# Altium footprint library ESP32-S3-WROOM-1.PcbLib: 40 footprints (part 2 of 3)
Each footprint in its own frame and in the unit in brackets; x right, y up, seen from the top. Pads: shape width x height; smd on the part's side, far side on the other; paste and mask are expansions set on the pad; w line width, h text height; cw(c..) or ccw(c..) is an arc to the next point about the centre after c.
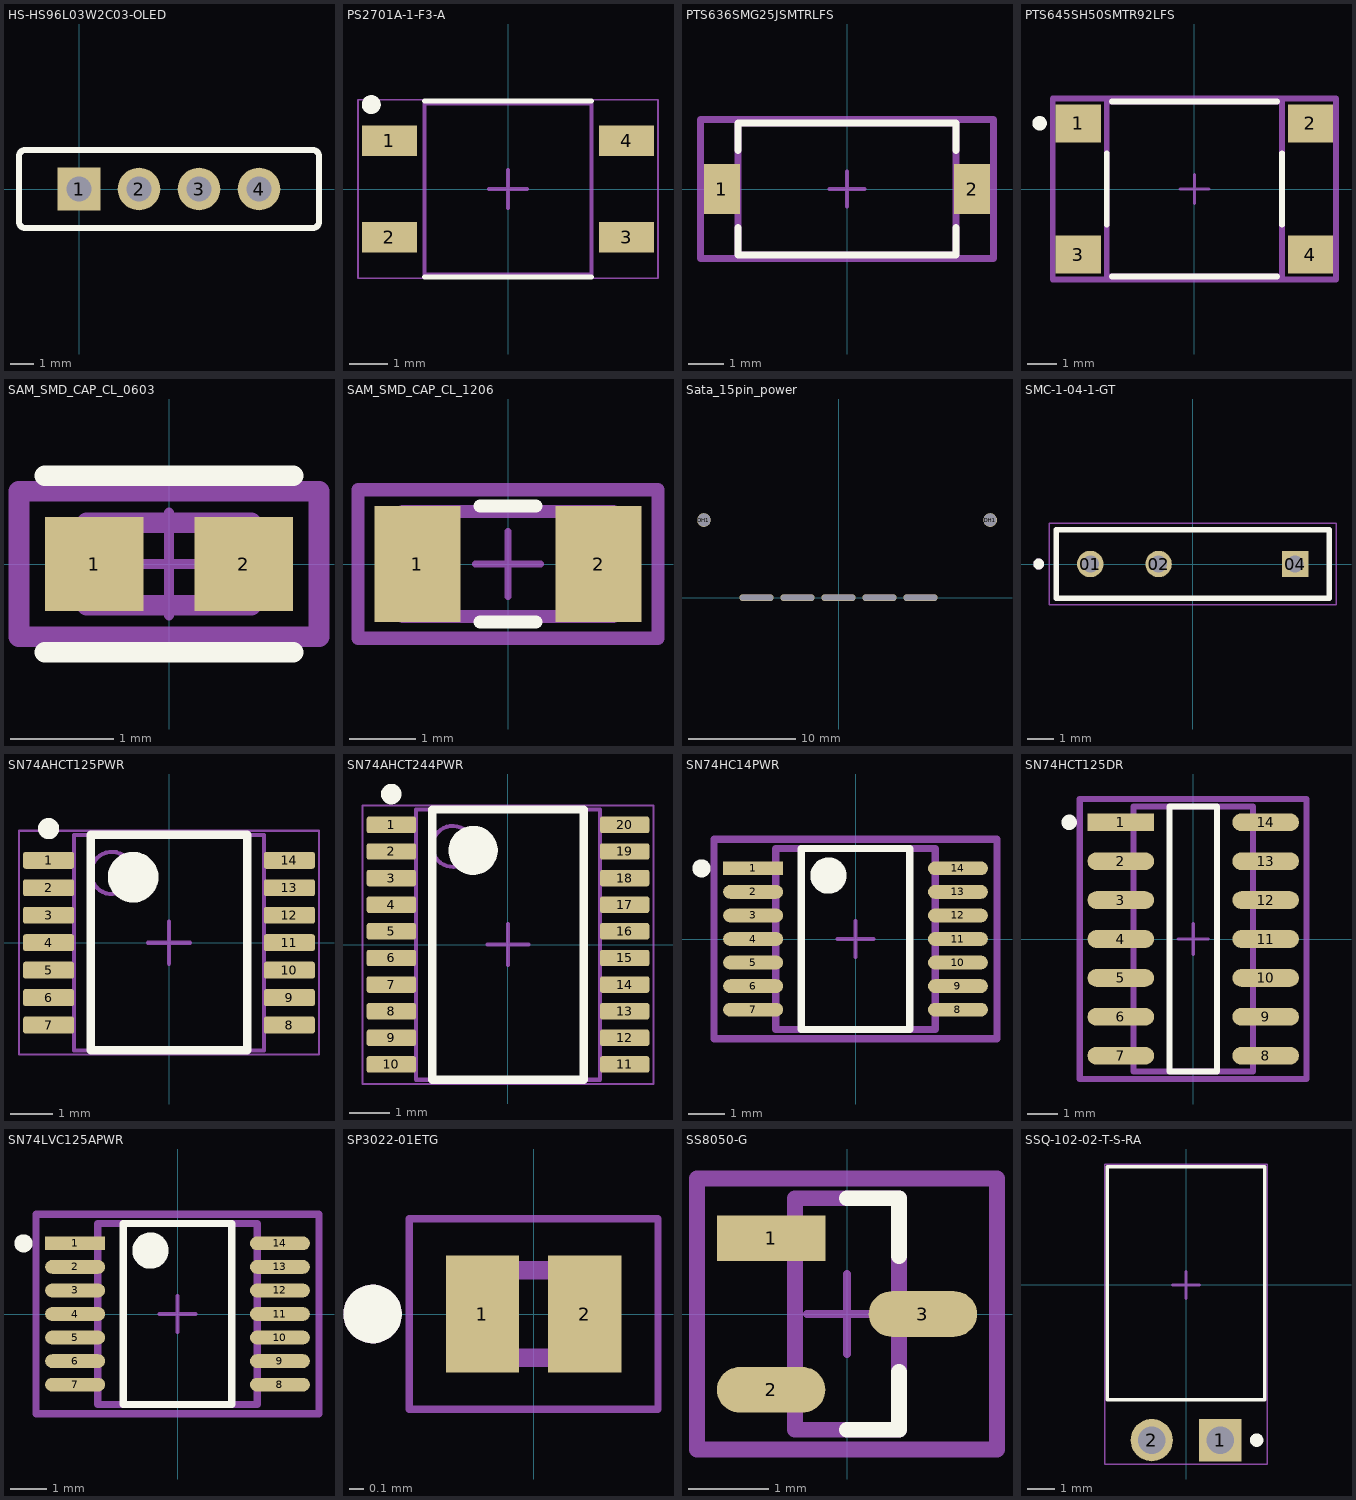
[diagram p1: the footprints below, top view; thin cyan lines are the x and y axes]

## HS-HS96L03W2C03-OLED [mm]
pads (4):
  rect 1.8x1.8 hole 1.05 paste-2539.97 mask+0.05: 1(0,0)
  round 1.8 hole 1.05 paste-2539.97 mask+0.05: 2(2.54,0) 3(5.08,0) 4(7.62,0)
Top Overlay:
  lines w0.254: -2.54,-1.397 ccw(c-2.286,-1.397) -2.286,-1.651 9.906,-1.651 ccw(c9.906,-1.397) 10.16,-1.397 10.16,1.397 ccw(c9.906,1.397) 9.906,1.651 -2.286,1.651 ccw(c-2.286,1.397) -2.54,1.397 -2.54,-1.397
Top Courtyard:
  region: -0.32,0.32 0.32,0.32 0.32,-0.32 -0.32,-0.32
  region: 2.22,0.32 2.86,0.32 2.86,-0.32 2.22,-0.32
  region: 4.76,0.32 5.4,0.32 5.4,-0.32 4.76,-0.32
  region: 7.3,0.32 7.94,0.32 7.94,-0.32 7.3,-0.32
3D body "User Library-128x64I2COLEDDisplayAdafruit.step": height 5.03, standoff -5.82, extent -9.54,-25.574 17.16,2.286

## PS2701A-1-F3-A [mm] "Recommended Land Pattern"
height 2.3
pads (4):
  rect 1.45x0.8 smd paste+0 mask+0: 1(-3.125,1.27) 2(-3.125,-1.27) 3(3.125,-1.27) 4(3.125,1.27)
Top Overlay:
  circle w0.25: c-3.6,2.224 r0.125
  lines w0.127: -2.2,-2.314 2.2,-2.314 ; -2.2,2.314 2.2,2.314
Top Assembly:
  lines w0.1: -2.2,-2.25 2.2,-2.25 2.2,2.25 -2.2,2.25 -2.2,-2.25
Top Designator:
  text ".Designator" at 0,-0.001 h1
Top Courtyard:
  lines w0.05: -3.95,-2.35 3.95,-2.35 3.95,2.35 -3.95,2.35 -3.95,-2.35
Top Component Center:
  lines w0.1: -0.5,0 0.5,0 ; 0,-0.5 0,0.5
3D body "SOP254P700X230-4_SOP-OPTO3.STEP": height 2.3, standoff 0, extent -3.5,-2 3.5,2

## PTS636SMG25JSMTRLFS [mm]
pads (2):
  rect 1x1.4 smd paste+0 mask+0: 1(-3.5,0) 2(3.5,0)
Top Overlay:
  lines w0.2: -3.05,-1.075 -3.05,-1.85 3.05,-1.85 3.05,-1.075 ; -3.05,1.075 -3.05,1.85 3.05,1.85 3.05,1.075
Top Assembly:
  lines w0.2: -4.1,-1.95 4.1,-1.95 4.1,1.95 -4.1,1.95 -4.1,-1.95
  text ".Designator" at 0,0.188 h1
Top 3D Body:
  lines w0.2: -3.05,-1.85 3.05,-1.85 3.05,1.85 -3.05,1.85 -3.05,-1.85
Top Courtyard:
  lines w0.2: -4.1,-1.95 4.1,-1.95 4.1,1.95 -4.1,1.95 -4.1,-1.95
Top Component Center:
  lines w0.1: -0.5,0 0.5,0 ; 0,-0.5 0,0.5
3D body "Switch_C&K_Components_PTS635SK25SM_eec.STEP": height 0.25, standoff 0, extent -4.1,-1.95 4.1,1.95

## PTS645SH50SMTR92LFS [mm]
pads (4):
  rect 1.55x1.3 smd paste+0 mask+0: 1(-3.975,2.25) 2(3.975,2.25) 3(-3.975,-2.25) 4(3.975,-2.25)
Top Overlay:
  circle w0.25: c-5.3,2.25 r0.125
  lines w0.2: -3,-1.225 -3,1.225 ; -2.825,-3 2.825,-3 ; -2.825,3 2.825,3 ; 3,-1.225 3,1.225
Top Assembly:
  lines w0.2: -4.85,-3.1 -4.85,3.1 4.85,3.1 4.85,-3.1 -4.85,-3.1
  text ".Designator" at 0,0.188 h1
Top 3D Body:
  lines w0.2: -3,-3 -3,3 3,3 3,-3 -3,-3
Top Courtyard:
  lines w0.2: -4.85,-3.1 -4.85,3.1 4.85,3.1 4.85,-3.1 -4.85,-3.1
Top Component Center:
  lines w0.1: -0.5,0 0.5,0 ; 0,-0.5 0,0.5
3D body "Switch_C&K_PTS645SH50SMTR92LFS_eec.STEP": height 0.25, standoff 0, extent -4.85,-3.1 4.85,3.1

## SAM_SMD_CAP_CL_0603 [mm]
pads (2):
  rect 0.958x0.912 smd paste+0 mask+0: 1(-0.727,0) 2(0.727,0)
Top Overlay:
  lines w0.2: -1.206,-0.856 1.206,-0.856 ; -1.206,0.856 1.206,0.856
Top Assembly:
  lines w0.2: -1.456,-0.706 -1.456,0.706 1.456,0.706 1.456,-0.706 -1.456,-0.706
  text ".Designator" at 0,0.188 h1
Top 3D Body:
  lines w0.2: -0.8,-0.4 -0.8,0.4 0.8,0.4 0.8,-0.4 -0.8,-0.4
Top Courtyard:
  lines w0.2: -1.456,-0.706 -1.456,0.706 1.456,0.706 1.456,-0.706 -1.456,-0.706
Top Component Center:
  lines w0.1: -0.5,0 0.5,0 ; 0,-0.5 0,0.5
3D body "Cap_Samsung_CL10B473KO8NNWC_eec.STEP": height 0.25, standoff 0, extent -1.456,-0.706 1.456,0.706

## SAM_SMD_CAP_CL_1206 [mm]
pads (2):
  rect 1.305x1.758 smd paste+0 mask+0: 1(-1.376,0) 2(1.376,0)
Top Overlay:
  lines w0.2: -0.424,-0.879 0.424,-0.879 ; -0.424,0.879 0.424,0.879
Top Assembly:
  lines w0.2: -2.279,-1.129 -2.279,1.129 2.279,1.129 2.279,-1.129 -2.279,-1.129
  text ".Designator" at 0,0.188 h1
Top 3D Body:
  lines w0.2: -1.6,-0.8 -1.6,0.8 1.6,0.8 1.6,-0.8 -1.6,-0.8
Top Courtyard:
  lines w0.2: -2.279,-1.129 -2.279,1.129 2.279,1.129 2.279,-1.129 -2.279,-1.129
Top Component Center:
  lines w0.1: -0.5,0 0.5,0 ; 0,-0.5 0,0.5
3D body "Cap_Samsung_CL31B105KOFNNNE_eec.STEP": height 0.25, standoff 0, extent -2.279,-1.129 2.279,1.129

## Sata_15pin_power [mil]
pads (7):
  oval 125x25 hole 20 slot 120 at 0 deg: 3V3(300,0) 5V(0,0) 12v(-300,0) GND-1(-150,0) GND-2(150,0)
  round 50 hole 47.24 unplated: DH1(-493,284) DH1(555,284)
3D body "15PinSataMaleTHT_v2.step": height 173.23, standoff -98.43, extent -565.55,-152.13 615.55,340

## SMC-1-04-1-GT [mm]
pads (3):
  round 0.985 hole 0.635: 01(-3.81,0) 02(-1.27,0)
  rect 0.985x0.985 hole 0.635: 04(3.81,0)
Top Overlay:
  circle w0.2: c-5.73,0 r0.1
  lines w0.2: -5.08,-1.27 -5.08,1.27 5.08,1.27 5.08,-1.27 -5.08,-1.27
Top 3D Body:
  circle w0.2: c-5.73,0 r0.1
  lines w0.1: -5.08,-1.27 -5.08,1.27 ; -5.08,-1.27 5.08,-1.27 ; -5.08,-1.27 -5.08,1.27 ; -5.08,1.27 5.08,1.27 ; -5.08,1.27 5.08,1.27 ; 5.08,-1.27 5.08,1.27 ; 5.08,-1.27 5.08,1.27
Top Courtyard:
  lines w0.05: -5.33,-1.52 -5.33,1.52 5.33,1.52 5.33,-1.52 -5.33,-1.52
3D body "User Library-ADAM_TECH_SMC-1-04-1-GT.STEP": height 4.28, standoff -3.15, extent -5.08,-1.27 5.08,1.27

## SN74AHCT125PWR [mm] "SOP, 14-Leads, Body 5.1x4.5mm, Pitch 0.65mm, IPC High Density"
height 1.2
pads (14):
  rrect25% 1.2x0.4 smd: 1(-2.85,1.95) 2(-2.85,1.3) 3(-2.85,0.65) 4(-2.85,0) 5(-2.85,-0.65) 6(-2.85,-1.3) 7(-2.85,-1.95) 8(2.85,-1.95) 9(2.85,-1.3) 10(2.85,-0.65) 11(2.85,0) 12(2.85,0.65) 13(2.85,1.3) 14(2.85,1.95)
Top Overlay:
  circle w0.6: c-0.85,1.55 r0.3
  circle w0.25: c-2.85,2.7 r0.125
  lines w0.2: -1.85,-2.55 1.85,-2.55 1.85,2.55 -1.85,2.55 -1.85,-2.55
Mechanical 1:
  text ".Designator" at -1.524,-0.508 h1.02
Top 3D Body:
  circle w0.1: c-1.35,1.65 r0.5
  lines w0.1: -2.25,-2.55 2.25,-2.55 2.25,2.55 -2.25,2.55 -2.25,-2.55
Top Courtyard:
  lines w0.05: -3.55,-2.65 3.55,-2.65 3.55,2.65 -3.55,2.65 -3.55,-2.65
  lines w0.1: -0.5,0 0.5,0 ; 0,-0.5 0,0.5
3D body "PW0014AakaMTC14.stp": height 1, standoff 0, extent -3.21,-2.5 3.21,2.5

## SN74AHCT244PWR [mm] "SOP, 20-Leads, Body 6.6x4.5mm, Pitch 0.65mm, IPC High Density"
height 1.2
pads (20):
  rrect25% 1.2x0.4 smd: 1(-2.85,2.925) 2(-2.85,2.275) 3(-2.85,1.625) 4(-2.85,0.975) 5(-2.85,0.325) 6(-2.85,-0.325) 7(-2.85,-0.975) 8(-2.85,-1.625) 9(-2.85,-2.275) 10(-2.85,-2.925) 11(2.85,-2.925) 12(2.85,-2.275) 13(2.85,-1.625) 14(2.85,-0.975) 15(2.85,-0.325) 16(2.85,0.325) 17(2.85,0.975) 18(2.85,1.625) 19(2.85,2.275) 20(2.85,2.925)
Top Overlay:
  circle w0.25: c-2.85,3.675 r0.125
  circle w0.6: c-0.85,2.3 r0.3
  lines w0.2: -1.85,-3.3 -1.85,3.3 1.85,3.3 1.85,-3.3 -1.85,-3.3
Mechanical 1:
  text ".Designator" at -1.524,-0.508 h1.02
Top 3D Body:
  circle w0.1: c-1.35,2.4 r0.5
  lines w0.1: -2.25,-3.3 -2.25,3.3 2.25,3.3 2.25,-3.3 -2.25,-3.3
Top Courtyard:
  lines w0.05: -3.55,-3.4 -3.55,3.4 3.55,3.4 3.55,-3.4 -3.55,-3.4
  lines w0.1: -0.5,0 0.5,0 ; 0,-0.5 0,0.5
3D body "PW0020AakaMTC20.stp": height 1, standoff 0, extent -3.21,-3.25 3.21,3.25

## SN74HC14PWR [mm]
pads (14):
  rect 1.655x0.381 smd paste+0 mask+0: 1(-2.825,1.95)
  rrect100% 1.655x0.381 smd paste+0 mask+0: 2(-2.825,1.3) 3(-2.825,0.65) 4(-2.825,0) 5(-2.825,-0.65) 6(-2.825,-1.3) 7(-2.825,-1.95) 8(2.825,-1.95) 9(2.825,-1.3) 10(2.825,-0.65) 11(2.825,0) 12(2.825,0.65) 13(2.825,1.3) 14(2.825,1.95)
Top Overlay:
  circle w0.5: c-0.748,1.75 r0.25
  circle w0.25: c-4.25,1.95 r0.125
  lines w0.2: -1.498,-2.5 1.498,-2.5 1.498,2.5 -1.498,2.5 -1.498,-2.5
Top Assembly:
  lines w0.2: -3.903,-2.75 3.903,-2.75 3.903,2.75 -3.903,2.75 -3.903,-2.75
  text ".Designator" at 0,0.188 h1
Top 3D Body:
  lines w0.2: -2.2,-2.5 2.2,-2.5 2.2,2.5 -2.2,2.5 -2.2,-2.5
Top Courtyard:
  lines w0.2: -3.903,-2.75 3.903,-2.75 3.903,2.75 -3.903,2.75 -3.903,-2.75
Top Component Center:
  lines w0.1: -0.5,0 0.5,0 ; 0,-0.5 0,0.5
3D body "IC_Texas_Instruments_BQ34110PWR_eec.STEP": height 0.25, standoff 0, extent -3.903,-2.75 3.903,2.75

## SN74HCT125DR [mm]
pads (14):
  rect 2.174x0.582 smd paste+0 mask+0: 1(-2.366,3.81)
  rrect100% 2.174x0.582 smd paste+0 mask+0: 2(-2.366,2.54) 3(-2.366,1.27) 4(-2.366,0) 5(-2.366,-1.27) 6(-2.366,-2.54) 7(-2.366,-3.81) 8(2.366,-3.81) 9(2.366,-2.54) 10(2.366,-1.27) 11(2.366,0) 12(2.366,1.27) 13(2.366,2.54) 14(2.366,3.81)
Top Overlay:
  circle w0.25: c-4.05,3.81 r0.125
  lines w0.2: -0.779,-4.325 0.779,-4.325 0.779,4.325 -0.779,4.325 -0.779,-4.325
Top Assembly:
  lines w0.2: -3.703,-4.575 3.703,-4.575 3.703,4.575 -3.703,4.575 -3.703,-4.575
  text ".Designator" at 0,0.188 h1
Top 3D Body:
  lines w0.2: -1.95,-4.325 1.95,-4.325 1.95,4.325 -1.95,4.325 -1.95,-4.325
Top Courtyard:
  lines w0.2: -3.703,-4.575 3.703,-4.575 3.703,4.575 -3.703,4.575 -3.703,-4.575
Top Component Center:
  lines w0.1: -0.5,0 0.5,0 ; 0,-0.5 0,0.5
3D body "IC_Texas_Instruments_OPA4191IDR_eec.STEP": height 0.25, standoff 0, extent -3.703,-4.575 3.703,4.575

## SN74LVC125APWR [mm]
pads (14):
  rect 1.655x0.381 smd paste+0 mask+0: 1(-2.825,1.95)
  rrect100% 1.655x0.381 smd paste+0 mask+0: 2(-2.825,1.3) 3(-2.825,0.65) 4(-2.825,0) 5(-2.825,-0.65) 6(-2.825,-1.3) 7(-2.825,-1.95) 8(2.825,-1.95) 9(2.825,-1.3) 10(2.825,-0.65) 11(2.825,0) 12(2.825,0.65) 13(2.825,1.3) 14(2.825,1.95)
Top Overlay:
  circle w0.5: c-0.748,1.75 r0.25
  circle w0.25: c-4.25,1.95 r0.125
  lines w0.2: -1.498,-2.5 1.498,-2.5 1.498,2.5 -1.498,2.5 -1.498,-2.5
Top Assembly:
  lines w0.2: -3.903,-2.75 3.903,-2.75 3.903,2.75 -3.903,2.75 -3.903,-2.75
  text ".Designator" at 0,0.188 h1
Top 3D Body:
  lines w0.2: -2.2,-2.5 2.2,-2.5 2.2,2.5 -2.2,2.5 -2.2,-2.5
Top Courtyard:
  lines w0.2: -3.903,-2.75 3.903,-2.75 3.903,2.75 -3.903,2.75 -3.903,-2.75
Top Component Center:
  lines w0.1: -0.5,0 0.5,0 ; 0,-0.5 0,0.5
3D body "IC_Texas_Instruments_BQ34110PWR_eec.STEP": height 0.25, standoff 0, extent -3.903,-2.75 3.903,2.75

## SP3022-01ETG [mm]
pads (2):
  rect 0.5x0.8 smd paste-0.1 mask+0: 1(-0.35,0) 2(0.35,0)
Top Overlay:
  circle w0.2: c-1.1,0 r0.1
Top Solder:
  drawing of 2 lines, arcs and shapes, not listed
Top 3D Body:
  circle w0.2: c-1.1,0 r0.1
  lines w0.127: -0.5,-0.3 -0.5,0.3 0.5,0.3 0.5,-0.3 -0.5,-0.3
Top Courtyard:
  lines w0.05: -0.85,-0.65 -0.85,0.65 0.85,0.65 0.85,-0.65 -0.85,-0.65
3D body "step_temp.STEP": height 0.5, standoff 0, extent -0.5,-0.3 0.5,0.3

## SS8050-G [mm]
pads (3):
  rect 1.357x0.572 smd paste+0 mask+0: 1(-0.951,0.95)
  rrect100% 1.357x0.572 smd paste+0 mask+0: 2(-0.951,-0.95) 3(0.951,0)
Top Overlay:
  lines w0.2: 0,-1.45 0.65,-1.45 0.65,-0.725 ; 0,1.45 0.65,1.45 0.65,0.725
Top Assembly:
  lines w0.2: -1.879,-1.7 1.879,-1.7 1.879,1.7 -1.879,1.7 -1.879,-1.7
  text ".Designator" at 0,-0.001 h1
Top 3D Body:
  lines w0.2: -0.65,-1.45 0.65,-1.45 0.65,1.45 -0.65,1.45 -0.65,-1.45
Top Courtyard:
  lines w0.2: -1.879,-1.7 1.879,-1.7 1.879,1.7 -1.879,1.7 -1.879,-1.7
Top Component Center:
  lines w0.1: -0.5,0 0.5,0 ; 0,-0.5 0,0.5
3D body "Trans_Comchip_SS8050-G_eec.STEP": height 0.25, standoff 0, extent -1.879,-1.7 1.879,1.7

## SSQ-102-02-T-S-RA [mm] "Recommended Land Pattern"
height 2.54
pads (2):
  rect 1.57x1.57 hole 1.02: 1(1.27,-5.755)
  round 1.57 hole 1.02: 2(-1.27,-5.755)
Top Overlay:
  circle w0.25: c2.62,-5.755 r0.125
  lines w0.127: -2.92,-4.255 -2.92,4.385 2.92,4.385 2.92,-4.255 -2.92,-4.255
Top Assembly:
  lines w0.1: -2.92,-4.255 -2.92,4.385 2.92,4.385 2.92,-4.255 -2.92,-4.255
Top Designator:
  text ".Designator" at 0,-0.89 h1
Top Courtyard:
  lines w0.05: -3.02,-6.64 -3.02,4.485 3.02,4.485 3.02,-6.64 -3.02,-6.64
Top Component Center:
  lines w0.1: -0.5,0 0.5,0 ; 0,-0.5 0,0.5
3D body "SSQ-102-02-T-S-RA.STEP": height 0.25, standoff 0, extent -3.02,-6.64 3.02,4.485